# Altium schematic symbol library 150283DS73103.SchLib: 1 symbol
Pins are listed as number, name and electrical type; pins without a type are passive.

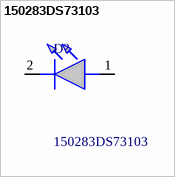
[diagram p0: symbol 150283DS73103]

## 150283DS73103
designator D?
Standard LEDs - SMD WL-SMTW SMT Mono-color TOP LED waterclear Horticul; Manufacturer_Name: Wurth Elektronik; Geometry.Height: 0.85mm; Mouser Part Number: 710-150283DS73103; Mouser Price/Stock: https://www.mouser.co.uk/ProductDetail/Wurth-Elektronik/150283DS73103/?qs=GedFDFLaBXFC8uVfOF%252Bhgw%3D%3D; Manufacturer_Part_Number: 150283DS73103; Datasheet Link: https://www.mouser.jp/datasheet/2/445/150283DS73103-1838914.pdf
footprint 150283DS73103
pins: 1 A, 2 K